# EAGLE library part SR-FRS-1W (library FSAE Eletric)
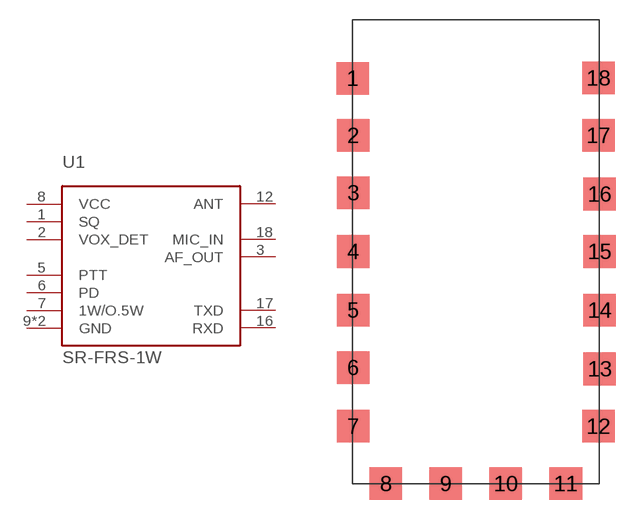
[diagram p16: symbol with the pads of SR-FRS-1W; footprint SR-FRS-1W]

Designator prefix U1

## SR-FRS-1W  [SR-FRS-1W]
1  SQ
2  VOX_DET
3  AF_OUT
5  PTT
6  PD
7  1W/O.5W
8  VCC
9  GND
10  GND
12  ANT
16  RXD
17  TXD
18  MIC_IN

## Footprint SR-FRS-1W (pad centres in mm)
smd 2.5 x 2.5: 1 0,31.1; 2 0.04,26.72; 3 0.04,22.32; 4 0.04,17.82; 5 0.04,13.32; 6 0.04,8.92; 7 0.04,4.42; 8 2.54,0.02; 9 7.14,0.02; 10 11.74,0.02; 11 16.34,0.02; 12 18.84,4.42; 13 18.94,8.82; 14 18.94,13.32; 15 18.94,17.82; 16 18.94,22.22; 17 18.84,26.72; 18 18.84,31.12